# Altium schematic symbol library SJ-3523-SMT-TR.SchLib: 1 symbol
Pins are listed as number, name and electrical type; pins without a type are passive.

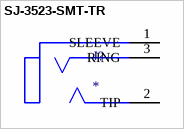
[diagram p0: symbol SJ-3523-SMT-TR]

## SJ-3523-SMT-TR
designator J?
SJ Series 3.5 mm 12 V SMT Right Angle Stereo Audio Jack; MP: SJ-3523-SMT-TR; MF: {'manufacturer': u'CUI Devices'}; Value: *; Package: None; Price: None; Availability: Unavailable
footprint CUI_SJ-3523-SMT-TR
pins: 1 SLEEVE, 2 TIP, 3 RING